# EAGLE library part TRS3253EIRSMR (library TRS3253EIRSMR)
Texas Instruments TRS3253EIRSMR, Line Transceiver, RS-232 3-TX 5-RX, 3 5.5 V, 32-Pin QFN Source: Datasheet <http://www.ti.com/lit/gpn/trs3253e>
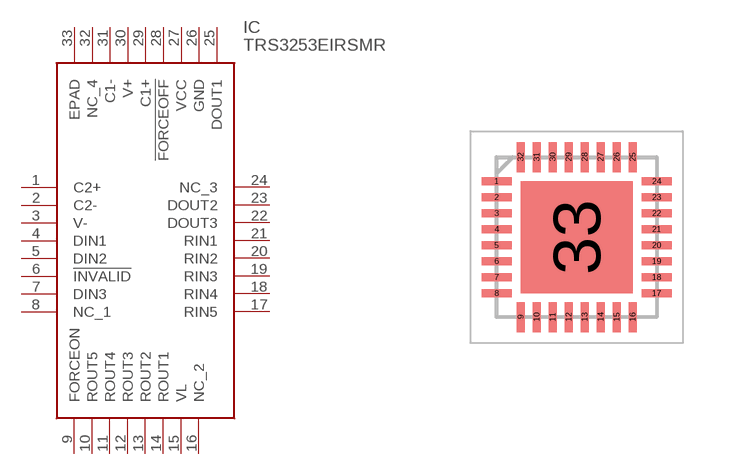
[diagram p0: symbol with the pads of QFN40P400X400X100-33N; footprint QFN40P400X400X100-33N]

Designator prefix IC

## TRS3253EIRSMR (Description: Texas Instruments TRS3253EIRSMR, Line Transceiver, RS-232 3-TX 5-RX, 3 5.5 V, 32-Pin QFN; Height: 1mm; Manufacturer_Name: Texas Instruments; Manufacturer_Part_Number: TRS3253EIRSMR; Mouser_Part_Number: 595-TRS3253EIRSMR; Mouser_Price-Stock: https://www.mouser.co.uk/ProductDetail/Texas-Instruments/TRS3253EIRSMR/?qs=nRD1PKnFC2EXDSNs7uJ62g%3D%3D)  [QFN40P400X400X100-33N]
1  C2+
2  C2-
3  V-
4  DIN1
5  DIN2
6  !INVALID
7  DIN3
8  NC_1
9  FORCEON
10  ROUT5
11  ROUT4
12  ROUT3
13  ROUT2
14  ROUT1
15  VL
16  NC_2
17  RIN5
18  RIN4
19  RIN3
20  RIN2
21  RIN1
22  DOUT3
23  DOUT2
24  NC_3
25  DOUT1
26  GND
27  VCC
28  !FORCEOFF
29  C1+
30  V+
31  C1-
32  NC_4
33  EPAD

## Footprint QFN40P400X400X100-33N (pad centres in mm)
RSM (S-PVQFN-N32)
smd 0.75 x 0.2: 1 -2,1.4; 2 -2,1; 3 -2,0.6; 4 -2,0.2; 5 -2,-0.2; 6 -2,-0.6; 7 -2,-1; 8 -2,-1.4; 17 2,-1.4; 18 2,-1; 19 2,-0.6; 20 2,-0.2; 21 2,0.2; 22 2,0.6; 23 2,1; 24 2,1.4
smd 0.2 x 0.75: 9 -1.4,-2; 10 -1,-2; 11 -0.6,-2; 12 -0.2,-2; 13 0.2,-2; 14 0.6,-2; 15 1,-2; 16 1.4,-2; 25 1.4,2; 26 1,2; 27 0.6,2; 28 0.2,2; 29 -0.2,2; 30 -0.6,2; 31 -1,2; 32 -1.4,2
smd 2.8 x 2.8: 33 0,0